# Altium footprint library LFCSP-8.PcbLib: 1 footprints
Each footprint in its own frame and in the unit in brackets; x right, y up, seen from the top. Pads: shape width x height; smd on the part's side, far side on the other; paste and mask are expansions set on the pad; w line width, h text height; cw(c..) or ccw(c..) is an arc to the next point about the centre after c.
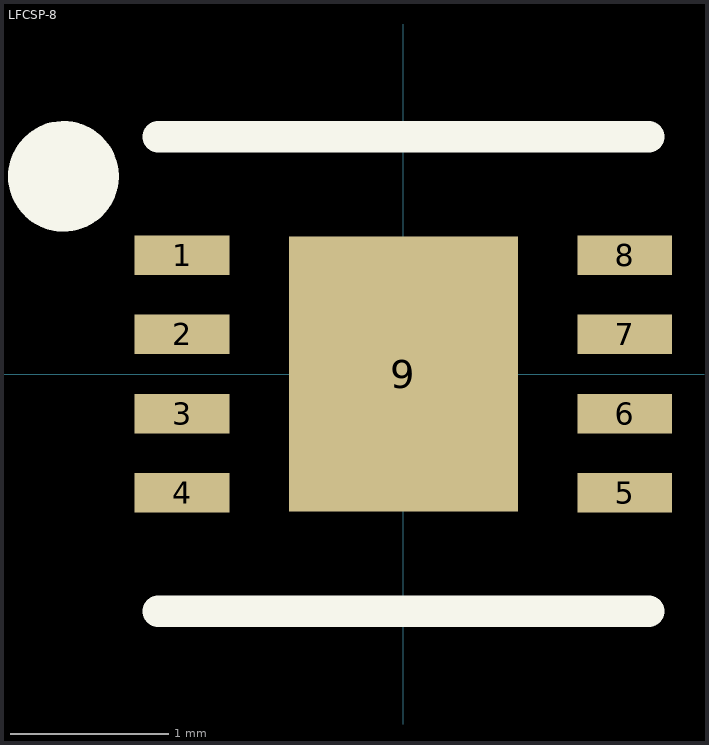
[diagram p0: the footprint, top view; thin cyan lines are the x and y axes]

## LFCSP-8 [mm]
pads (9):
  rect 0.6x0.25 smd mask+0.05: 1(-1.4,0.75) 2(-1.4,0.25) 3(-1.4,-0.25) 4(-1.4,-0.75) 5(1.4,-0.75) 6(1.4,-0.25) 7(1.4,0.25) 8(1.4,0.75)
  rect 1.45x1.74 smd mask+0.05: 9(0,0)
Top Overlay:
  circle w0.35: c-2.15,1.25 r0.175
  lines w0.2: -1.55,-1.5 1.55,-1.5 ; -1.55,1.5 1.55,1.5
3D body: height 0.75, standoff 0, extent -1.5,-1.5 1.5,1.5